# Altium schematic symbol library LTC2379.SchLib: 1 symbol
Pins are listed as number, name and electrical type; pins without a type are passive.

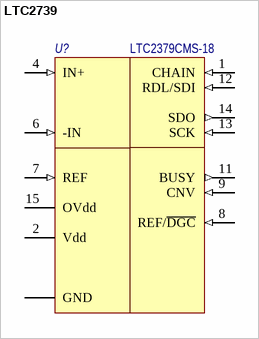
[diagram p0: symbol LTC2739]

## LTC2739
designator U?  Наименование: LTC2379CMS-18  (hidden comment: LTC2739)
18-Bit, 1.6Msps, Low Power SAR ADC with 101.2dB SNR; Потребление, Вт: 0,025; Назначение: 18-Bit, 1.6Msps, Low Power SAR ADC with 101.2dB SNR; ComponentLink1Description: DataSheet; ComponentLink1URL: https://www.analog.com/media/en/technical-documentation/data-sheets/237918fb.pdf
footprint MSOP16
pins: 1 CHAIN (in), 2 Vdd (power), 3 GND (power), 4 IN+ (in), 6 -IN (in), 6 GND (power), 7 REF (in), 8 REF/~{DGC} (in), 9 CNV (in), 10 GND (power), 11 BUSY (out), 12 RDL/SDI (in), 13 SCK (in), 14 SDO (out), 15 OVdd (power), 16 GND (power)